# EAGLE library part EP9312 (library cirrus-mpu)
EP9312 - ARM920T Processor, 200-MHz
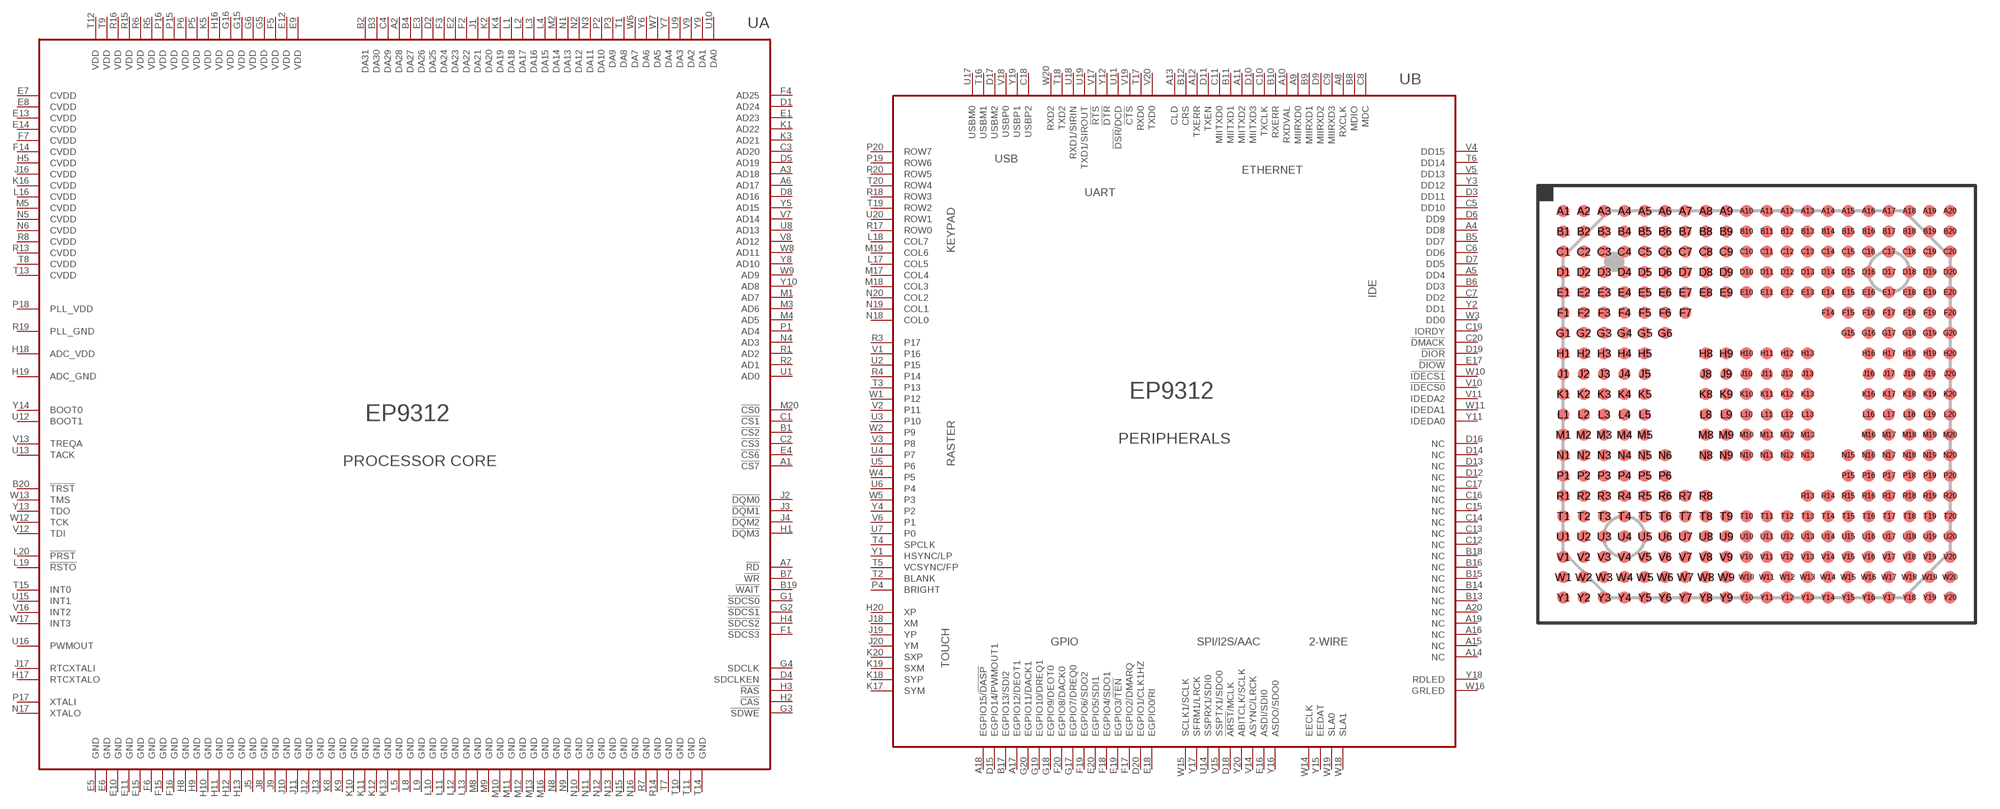
[diagram p1: symbol with the pads of PBGA-352; footprint PBGA-352]

Designator prefix U; gates A=EP9312_CORE B=EP9312_PERIPHERAL

## EP9312  [PBGA-352]
A1  A:!CS7!  out
A2  A:DA28
A3  A:AD18  out
A4  B:DD8
A5  B:DD4
A6  A:AD17  out
A7  A:!RD!  out
A8  B:RXCLK  in
A9  B:MIIRXD0  in
A10  B:RXDVAL  in
A11  B:MIITXD2  out
A12  B:TXERR  out
A13  B:CLD  in
A14  B:NC1  nc
A15  B:NC2  nc
A16  B:NC3  nc
A17  B:EGPIO12/DEOT1
A18  B:EGPIO15/!DASP!
A19  B:NC4  nc
A20  B:NC5  nc
B1  A:!CS2!  out
B2  A:DA31
B3  A:DA30
B4  A:DA27
B5  B:DD7
B6  B:DD3
B7  A:!WR!  out
B8  B:MDIO  out
B9  B:MIIRXD1  in
B10  B:RXERR  in
B11  B:MIITXD1  out
B12  B:CRS  in
B13  B:NC6  nc
B14  B:NC7  nc
B15  B:NC8  nc
B16  B:NC9  nc
B17  B:EGPIO13/SDI2
B18  B:NC10  nc
B19  A:!WAIT!  in
B20  A:!TRST!  in
C1  A:!CS1!  out
C2  A:!CS3!  out
C3  A:AD20  out
C4  A:DA29
C5  B:DD10
C6  B:DD6
C7  B:DD2
C8  B:MDC  out
C9  B:MIIRXD3  in
C10  B:TXCLK  in
C11  B:MIITXD0  out
C12  B:NC11  nc
C13  B:NC12  nc
C14  B:NC13  nc
C15  B:NC14  nc
C16  B:NC15  nc
C17  B:NC16  nc
C18  B:USBP2
C19  B:IORDY
C20  B:!DMACK!
D1  A:AD24  out
D2  A:DA25
D3  B:DD11
D4  A:SDCLKEN  out
D5  A:AD19  out
D6  B:DD9
D7  B:DD5
D8  A:AD16  out
D9  B:MIIRXD2  in
D10  B:MIITXD3  out
D11  B:TXEN  out
D12  B:NC17  nc
D13  B:NC18  nc
D14  B:NC19  nc
D15  B:EGPIO14/PWMOUT1
D16  B:NC20  nc
D17  B:USBM2
D18  B:!ARST!/MCLK
D19  B:!DIOR!
D20  B:EGPIO1/CLK1HZ
E1  A:AD23  out
E2  A:DA23
E3  A:DA26
E4  A:!CS6!  out
E5  A:GND1  pwr
E6  A:GND2  pwr
E7  A:CVDD1  pwr
E8  A:CVDD2  pwr
E9  A:VDD1  pwr
E10  A:GND3  pwr
E11  A:GND4  pwr
E12  A:VDD2  pwr
E13  A:CVDD3  pwr
E14  A:CVDD4  pwr
E15  A:GND5  pwr
E16  B:ASDI/SDI0
E17  B:!DIOW!
E18  B:EGPIO0/RI
E19  B:EGPIO3/!TEN!
E20  B:EGPIO5/SDI1
F1  A:!SDCS3!  out
F2  A:DA22
F3  A:DA24
F4  A:AD25  out
F5  A:VDD3  pwr
F6  A:GND6  pwr
F7  A:CVDD5  pwr
F14  A:CVDD6  pwr
F15  A:GND7  pwr
F16  A:GND8  pwr
F17  B:EGPIO2/DMARQ
F18  B:EGPIO4/SDO1
F19  B:EGPIO6/SDO2
F20  B:EGPIO8/DACK0
G1  A:!SDCS0!  out
G2  A:!SDCS1!  out
G3  A:!SDWE!  out
G4  A:SDCLK  out
G5  A:VDD4  pwr
G6  A:VDD5  pwr
G15  A:VDD6  pwr
G16  A:VDD7  pwr
G17  B:EGPIO7/DREQ0
G18  B:EGPIO9/DEOT0
G19  B:EGPIO10/DREQ1
G20  B:EGPIO11/DACK1
H1  A:!DQM3!  out
H2  A:!CAS!  out
H3  A:!RAS!  out
H4  A:!SDCS2!  out
H5  A:CVDD7  pwr
H8  A:GND9  pwr
H9  A:GND10  pwr
H10  A:GND11  pwr
H11  A:GND12  pwr
H12  A:GND13  pwr
H13  A:GND14  pwr
H16  A:VDD8  pwr
H17  A:RTCXTALO  pas
H18  A:ADC_VDD  pwr
H19  A:ADC_GND  pwr
H20  B:XP  pas
J1  A:DA21
J2  A:!DQM0!  out
J3  A:!DQM1!  out
J4  A:!DQM2!  out
J5  A:GND15  pwr
J8  A:GND16  pwr
J9  A:GND17  pwr
J10  A:GND18  pwr
J11  A:GND19  pwr
J12  A:GND20  pwr
J13  A:GND21  pwr
J16  A:CVDD8  pwr
J17  A:RTCXTALI  pas
J18  B:XM  pas
J19  B:YP  pas
J20  B:YM  pas
K1  A:AD22  out
K2  A:DA20
K3  A:AD21  out
K4  A:DA19
K5  A:VDD9  pwr
K8  A:GND22  pwr
K9  A:GND23  pwr
K10  A:GND24  pwr
K11  A:GND25  pwr
K12  A:GND26  pwr
K13  A:GND27  pwr
K16  A:CVDD9  pwr
K17  B:SYM  pas
K18  B:SYP  pas
K19  B:SXM  pas
K20  B:SXP  pas
L1  A:DA18
L2  A:DA17
L3  A:DA16
L4  A:DA15
L5  A:GND28  pwr
L8  A:GND29  pwr
L9  A:GND30  pwr
L10  A:GND31  pwr
L11  A:GND32  pwr
L12  A:GND33  pwr
L13  A:GND34  pwr
L16  A:CVDD10  pwr
L17  B:COL5
L18  B:COL7
L19  A:!RSTO!
L20  A:!PRST!  in
M1  A:AD7  out
M2  A:DA14
M3  A:AD6  out
M4  A:AD5  out
M5  A:CVDD11  pwr
M8  A:GND35  pwr
M9  A:GND36  pwr
M10  A:GND37  pwr
M11  A:GND38  pwr
M12  A:GND39  pwr
M13  A:GND40  pwr
M16  A:GND41  pwr
M17  B:COL4
M18  B:COL3
M19  B:COL6
M20  A:!CS0!  out
N1  A:DA13
N2  A:DA12
N3  A:DA11
N4  A:AD3  out
N5  A:CVDD12  pwr
N6  A:CVDD13  pwr
N8  A:GND42  pwr
N9  A:GND43  pwr
N10  A:GND44  pwr
N11  A:GND45  pwr
N12  A:GND46  pwr
N13  A:GND47  pwr
N15  A:GND48  pwr
N16  A:GND49  pwr
N17  A:XTALO  pas
N18  B:COL0
N19  B:COL1
N20  B:COL2
P1  A:AD4  out
P2  A:DA10
P3  A:DA9
P4  B:BRIGHT
P5  A:VDD10  pwr
P6  A:VDD11  pwr
P15  A:VDD12  pwr
P16  A:VDD13  pwr
P17  A:XTALI  pas
P18  A:PLL_VDD  pwr
P19  B:ROW6
P20  B:ROW7
R1  A:AD2  out
R2  A:AD1  out
R3  B:P17
R4  B:P14
R5  A:VDD14  pwr
R6  A:VDD15  pwr
R7  A:GND50  pwr
R8  A:CVDD14  pwr
R13  A:CVDD15  pwr
R14  A:GND51  pwr
R15  A:VDD16  pwr
R16  A:VDD17  pwr
R17  B:ROW0
R18  B:ROW3
R19  A:PLL_GND  pwr
R20  B:ROW5
T1  A:DA8
T2  B:BLANK
T3  B:P13
T4  B:SPCLK
T5  B:VCSYNC/FP
T6  B:DD14
T7  A:GND52  pwr
T8  A:CVDD16  pwr
T9  A:VDD18  pwr
T10  A:GND53  pwr
T11  A:GND54  pwr
T12  A:VDD19  pwr
T13  A:CVDD17  pwr
T14  A:GND55  pwr
T15  A:INT0
T16  B:USBM1
T17  B:RXD0
T18  B:TXD2
T19  B:ROW2
T20  B:ROW4
U1  A:AD0  out
U2  B:P15
U3  B:P10
U4  B:P7
U5  B:P6
U6  B:P4
U7  B:P0
U8  A:AD13  out
U9  A:DA3
U10  A:DA0
U11  B:!DSR!/DCD
U12  A:BOOT1
U13  A:TACK
U14  B:SSPRX1/SDI0
U15  A:INT1
U16  A:PWMOUT  out
U17  B:USBM0
U18  B:RXD1/SIRIN
U19  B:TXD1/SIROUT
U20  B:ROW1
V1  B:P16
V2  B:P11
V3  B:P8
V4  B:DD15
V5  B:DD13
V6  B:P1
V7  A:AD14  out
V8  A:AD12  out
V9  A:DA2
V10  B:!IDECS0!
V11  B:IDEDA2
V12  A:TDI  in
V13  A:TREQA
V14  B:ASYNC/LRCK
V15  B:SSPTX1/SDO0
V16  A:INT2
V17  B:!RTS!
V18  B:USBP0
V19  B:!CTS!
V20  B:TXD0
W1  B:P12
W2  B:P9
W3  B:DD0
W4  B:P5
W5  B:P3
W6  A:DA7
W7  A:DA5
W8  A:AD11  out
W9  A:AD9  out
W10  B:!IDECS1!
W11  B:IDEDA1
W12  A:TCK  in
W13  A:TMS  in
W14  B:EECLK
W15  B:SCLK1/SCLK
W16  B:GRLED  out
W17  A:INT3
W18  B:SLA1
W19  B:SLA0
W20  B:RXD2
Y1  B:HSYNC/LP
Y2  B:DD1
Y3  B:DD12
Y4  B:P2
Y5  A:AD15  out
Y6  A:DA6
Y7  A:DA4
Y8  A:AD10  out
Y9  A:DA1
Y10  A:AD8  out
Y11  B:IDEDA0
Y12  B:!DTR!
Y13  A:TDO  out
Y14  A:BOOT0
Y15  B:EEDAT
Y16  B:ASDO/SDO0
Y17  B:SFRM1/LRCK
Y18  B:RDLED  out
Y19  B:USBP1
Y20  B:ABITCLK/SCLK

## Footprint PBGA-352 (pad centres in mm)
BGA 352 Pin
smd 0.75 x 0.75: A1 -12.065,12.065; A2 -10.795,12.065; A3 -9.525,12.065; A4 -8.255,12.065; A5 -6.985,12.065; A6 -5.715,12.065; A7 -4.445,12.065; A8 -3.175,12.065; A9 -1.905,12.065; A10 -0.635,12.065; A11 0.635,12.065; A12 1.905,12.065; A13 3.175,12.065; A14 4.445,12.065; A15 5.715,12.065; A16 6.985,12.065; A17 8.255,12.065; A18 9.525,12.065; A19 10.795,12.065; A20 12.065,12.065; B1 -12.065,10.795; B2 -10.795,10.795; B3 -9.525,10.795; B4 -8.255,10.795; B5 -6.985,10.795; B6 -5.715,10.795; B7 -4.445,10.795; B8 -3.175,10.795; B9 -1.905,10.795; B10 -0.635,10.795; B11 0.635,10.795; B12 1.905,10.795; B13 3.175,10.795; B14 4.445,10.795; B15 5.715,10.795; B16 6.985,10.795; B17 8.255,10.795; B18 9.525,10.795; B19 10.795,10.795; B20 12.065,10.795; C1 -12.065,9.525; C2 -10.795,9.525; C3 -9.525,9.525; C4 -8.255,9.525; C5 -6.985,9.525; C6 -5.715,9.525; C7 -4.445,9.525; C8 -3.175,9.525; C9 -1.905,9.525; C10 -0.635,9.525; C11 0.635,9.525; C12 1.905,9.525; C13 3.175,9.525; C14 4.445,9.525; C15 5.715,9.525; C16 6.985,9.525; C17 8.255,9.525; C18 9.525,9.525; C19 10.795,9.525; C20 12.065,9.525; D1 -12.065,8.255; D2 -10.795,8.255; D3 -9.525,8.255; D4 -8.255,8.255; D5 -6.985,8.255; D6 -5.715,8.255; D7 -4.445,8.255; D8 -3.175,8.255; D9 -1.905,8.255; D10 -0.635,8.255; D11 0.635,8.255; D12 1.905,8.255; D13 3.175,8.255; D14 4.445,8.255; D15 5.715,8.255; D16 6.985,8.255; D17 8.255,8.255; D18 9.525,8.255; D19 10.795,8.255; D20 12.065,8.255; E1 -12.065,6.985; E2 -10.795,6.985; E3 -9.525,6.985; E4 -8.255,6.985; E5 -6.985,6.985; E6 -5.715,6.985; E7 -4.445,6.985; E8 -3.175,6.985; E9 -1.905,6.985; E10 -0.635,6.985; E11 0.635,6.985; E12 1.905,6.985; E13 3.175,6.985; E14 4.445,6.985; E15 5.715,6.985; E16 6.985,6.985; E17 8.255,6.985; E18 9.525,6.985; E19 10.795,6.985; E20 12.065,6.985; F1 -12.065,5.715; F2 -10.795,5.715; F3 -9.525,5.715; F4 -8.255,5.715; F5 -6.985,5.715; F6 -5.715,5.715; F7 -4.445,5.715; F14 4.445,5.715; F15 5.715,5.715; F16 6.985,5.715; F17 8.255,5.715; F18 9.525,5.715; F19 10.795,5.715; F20 12.065,5.715; G1 -12.065,4.445; G2 -10.795,4.445; G3 -9.525,4.445; G4 -8.255,4.445; G5 -6.985,4.445; G6 -5.715,4.445; G15 5.715,4.445; G16 6.985,4.445; G17 8.255,4.445; G18 9.525,4.445; G19 10.795,4.445; G20 12.065,4.445; H1 -12.065,3.175; H2 -10.795,3.175; H3 -9.525,3.175; H4 -8.255,3.175; H5 -6.985,3.175; H8 -3.175,3.175; H9 -1.905,3.175; H10 -0.635,3.175; H11 0.635,3.175; H12 1.905,3.175; H13 3.175,3.175; H16 6.985,3.175; H17 8.255,3.175; H18 9.525,3.175; H19 10.795,3.175; H20 12.065,3.175; J1 -12.065,1.905; J2 -10.795,1.905; J3 -9.525,1.905; J4 -8.255,1.905; J5 -6.985,1.905; J8 -3.175,1.905; J9 -1.905,1.905; J10 -0.635,1.905; J11 0.635,1.905; J12 1.905,1.905; J13 3.175,1.905; J16 6.985,1.905; J17 8.255,1.905; J18 9.525,1.905; J19 10.795,1.905; J20 12.065,1.905; K1 -12.065,0.635; K2 -10.795,0.635; K3 -9.525,0.635; K4 -8.255,0.635; K5 -6.985,0.635; K8 -3.175,0.635; K9 -1.905,0.635; K10 -0.635,0.635; K11 0.635,0.635; K12 1.905,0.635; K13 3.175,0.635; K16 6.985,0.635; K17 8.255,0.635; K18 9.525,0.635; K19 10.795,0.635; K20 12.065,0.635; L1 -12.065,-0.635; L2 -10.795,-0.635; L3 -9.525,-0.635; L4 -8.255,-0.635; L5 -6.985,-0.635; L8 -3.175,-0.635; L9 -1.905,-0.635; L10 -0.635,-0.635; L11 0.635,-0.635; L12 1.905,-0.635; L13 3.175,-0.635; L16 6.985,-0.635; L17 8.255,-0.635; L18 9.525,-0.635; L19 10.795,-0.635; L20 12.065,-0.635; M1 -12.065,-1.905; M2 -10.795,-1.905; M3 -9.525,-1.905; M4 -8.255,-1.905; M5 -6.985,-1.905; M8 -3.175,-1.905; M9 -1.905,-1.905; M10 -0.635,-1.905; M11 0.635,-1.905; M12 1.905,-1.905; M13 3.175,-1.905; M16 6.985,-1.905; M17 8.255,-1.905; M18 9.525,-1.905; M19 10.795,-1.905; M20 12.065,-1.905; N1 -12.065,-3.175; N2 -10.795,-3.175; N3 -9.525,-3.175; N4 -8.255,-3.175; N5 -6.985,-3.175; N6 -5.715,-3.175; N8 -3.175,-3.175; N9 -1.905,-3.175; N10 -0.635,-3.175; N11 0.635,-3.175; N12 1.905,-3.175; N13 3.175,-3.175; N15 5.715,-3.175; N16 6.985,-3.175; N17 8.255,-3.175; N18 9.525,-3.175; N19 10.795,-3.175; N20 12.065,-3.175; P1 -12.065,-4.445; P2 -10.795,-4.445; P3 -9.525,-4.445; P4 -8.255,-4.445; P5 -6.985,-4.445; P6 -5.715,-4.445; P15 5.715,-4.445; P16 6.985,-4.445; P17 8.255,-4.445; P18 9.525,-4.445; P19 10.795,-4.445; P20 12.065,-4.445; R1 -12.065,-5.715; R2 -10.795,-5.715; R3 -9.525,-5.715; R4 -8.255,-5.715; R5 -6.985,-5.715; R6 -5.715,-5.715; R7 -4.445,-5.715; R8 -3.175,-5.715; R13 3.175,-5.715; R14 4.445,-5.715; R15 5.715,-5.715; R16 6.985,-5.715; R17 8.255,-5.715; R18 9.525,-5.715; R19 10.795,-5.715; R20 12.065,-5.715; T1 -12.065,-6.985; T2 -10.795,-6.985; T3 -9.525,-6.985; T4 -8.255,-6.985; T5 -6.985,-6.985; T6 -5.715,-6.985; T7 -4.445,-6.985; T8 -3.175,-6.985; T9 -1.905,-6.985; T10 -0.635,-6.985; T11 0.635,-6.985; T12 1.905,-6.985; T13 3.175,-6.985; T14 4.445,-6.985; T15 5.715,-6.985; T16 6.985,-6.985; T17 8.255,-6.985; T18 9.525,-6.985; T19 10.795,-6.985; T20 12.065,-6.985; U1 -12.065,-8.255; U2 -10.795,-8.255; U3 -9.525,-8.255; U4 -8.255,-8.255; U5 -6.985,-8.255; U6 -5.715,-8.255; U7 -4.445,-8.255; U8 -3.175,-8.255; U9 -1.905,-8.255; U10 -0.635,-8.255; U11 0.635,-8.255; U12 1.905,-8.255; U13 3.175,-8.255; U14 4.445,-8.255; U15 5.715,-8.255; U16 6.985,-8.255; U17 8.255,-8.255; U18 9.525,-8.255; U19 10.795,-8.255; U20 12.065,-8.255; V1 -12.065,-9.525; V2 -10.795,-9.525; V3 -9.525,-9.525; V4 -8.255,-9.525; V5 -6.985,-9.525; V6 -5.715,-9.525; V7 -4.445,-9.525; V8 -3.175,-9.525; V9 -1.905,-9.525; V10 -0.635,-9.525; V11 0.635,-9.525; V12 1.905,-9.525; V13 3.175,-9.525; V14 4.445,-9.525; V15 5.715,-9.525; V16 6.985,-9.525; V17 8.255,-9.525; V18 9.525,-9.525; V19 10.795,-9.525; V20 12.065,-9.525; W1 -12.065,-10.795; W2 -10.795,-10.795; W3 -9.525,-10.795; W4 -8.255,-10.795; W5 -6.985,-10.795; W6 -5.715,-10.795; W7 -4.445,-10.795; W8 -3.175,-10.795; W9 -1.905,-10.795; W10 -0.635,-10.795; W11 0.635,-10.795; W12 1.905,-10.795; W13 3.175,-10.795; W14 4.445,-10.795; W15 5.715,-10.795; W16 6.985,-10.795; W17 8.255,-10.795; W18 9.525,-10.795; W19 10.795,-10.795; W20 12.065,-10.795; Y1 -12.065,-12.065; Y2 -10.795,-12.065; Y3 -9.525,-12.065; Y4 -8.255,-12.065; Y5 -6.985,-12.065; Y6 -5.715,-12.065; Y7 -4.445,-12.065; Y8 -3.175,-12.065; Y9 -1.905,-12.065; Y10 -0.635,-12.065; Y11 0.635,-12.065; Y12 1.905,-12.065; Y13 3.175,-12.065; Y14 4.445,-12.065; Y15 5.715,-12.065; Y16 6.985,-12.065; Y17 8.255,-12.065; Y18 9.525,-12.065; Y19 10.795,-12.065; Y20 12.065,-12.065